# Altium schematic symbol library ADuM1301.Schlib: 1 symbol
Pins are listed as number, name and electrical type; pins without a type are passive.

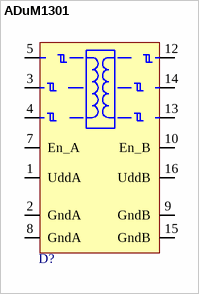
[diagram p0: symbol ADuM1301]

## ADuM1301
designator D?  (value not drawn)
Three channal isolator (2+1)
footprint SO-16
pins: 1 UddA (power), 2 GndA (power), 3, 4, 5, 7 En_A, 8 GndA (power), 9 GndB (power), 10 En_B, 12, 13, 14, 15 GndB (power), 16 UddB (power)